# Altium integrated library Altium Database Library V2.IntLib: 376 symbols (part 6 of 17)

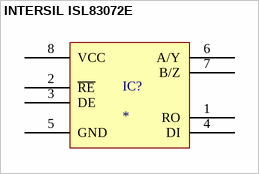
[diagram p115: symbol INTERSIL ISL83072E]

## INTERSIL ISL83072E
designator IC?
pins: 1 RO, 2 ~{RE}, 3 DE, 4 DI, 5 GND, 6 A/Y, 7 B/Z, 8 VCC


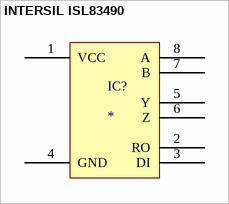
[diagram p116: symbol INTERSIL ISL83490]

## INTERSIL ISL83490
designator IC?
pins: 1 VCC, 2 RO, 3 DI, 4 GND, 5 Y, 6 Z, 7 B, 8 A


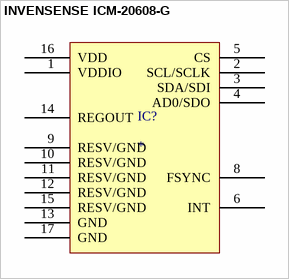
[diagram p117: symbol INVENSENSE ICM-20608-G]

## INVENSENSE ICM-20608-G
designator IC?
pins: 1 VDDIO, 2 SCL/SCLK, 3 SDA/SDI, 4 AD0/SDO, 5 CS, 6 INT, 8 FSYNC, 9 RESV/GND, 10 RESV/GND, 11 RESV/GND, 12 RESV/GND, 13 GND, 14 REGOUT, 15 RESV/GND, 16 VDD, 17 GND


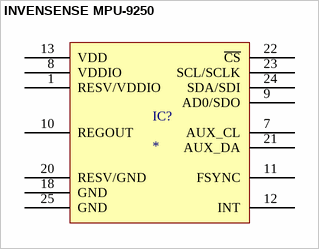
[diagram p118: symbol INVENSENSE MPU-9250]

## INVENSENSE MPU-9250
designator IC?
pins: 1 RESV/VDDIO, 7 AUX_CL, 8 VDDIO, 9 AD0/SDO, 10 REGOUT, 11 FSYNC, 12 INT, 13 VDD, 18 GND, 20 RESV/GND, 21 AUX_DA, 22 ~{CS}, 23 SCL/SCLK, 24 SDA/SDI, 25 GND


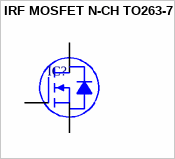
[diagram p119: symbol IRF MOSFET N-CH TO263-7]

## IRF MOSFET N-CH TO263-7
designator IC?
pins: 1 G, 2 S, 3 S, 5 S, 6 S, 7 S, 8 D


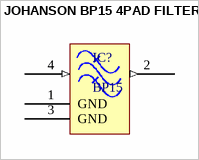
[diagram p120: symbol JOHANSON BP15 4PAD FILTER]

## JOHANSON BP15 4PAD FILTER
designator IC?, comment BP15
pins: 1 GND "Desc1", 2 OUT (out) "Desc1", 3 GND "Desc1", 4 IN (in) "Desc1"


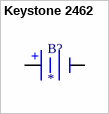
[diagram p121: symbol Keystone 2462]

## Keystone 2462
designator B?
pins: 1 +, 2 -


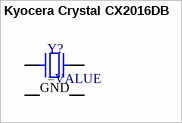
[diagram p122: symbol Kyocera Crystal CX2016DB]

## Kyocera Crystal CX2016DB
designator Y?
SMT Crystal
pins: 1, 2 GND, 3, 4 GND


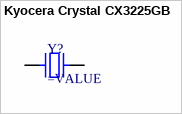
[diagram p123: symbol Kyocera Crystal CX3225GB]

## Kyocera Crystal CX3225GB
designator Y?
SMT Crystal
pins: 1, 3


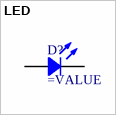
[diagram p124: symbol LED]

## LED
designator D?
Chip LED
pins: 1, 2


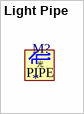
[diagram p125: symbol Light Pipe]

## Light Pipe
designator M?
text: 光; PIPE


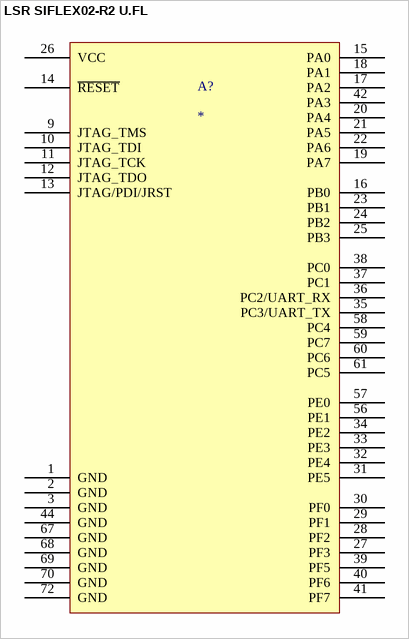
[diagram p126: symbol LSR SIFLEX02-R2 U.FL]

## LSR SIFLEX02-R2 U.FL
designator A?
pins: 1 GND, 2 GND, 3 GND, 9 JTAG_TMS, 10 JTAG_TDI, 11 JTAG_TCK, 12 JTAG_TDO, 13 JTAG/PDI/JRST, 14 ~{RESET}, 15 PA0, 16 PB0, 17 PA2, 18 PA1, 19 PA7, 20 PA4, 21 PA5, 22 PA6, 23 PB1, 24 PB2, 25 PB3, 26 VCC, 27 PF3, 28 PF2, 29 PF1, 30 PF0, 31 PE5, 32 PE4, 33 PE3, 34 PE2, 35 PC3/UART_TX, 36 PC2/UART_RX, 37 PC1, 38 PC0, 39 PF5, 40 PF6, 41 PF7, 42 PA3, 44 GND, 56 PE1, 57 PE0, 58 PC4, 59 PC7, 60 PC6, 61 PC5, 67 GND, 68 GND, 69 GND, 70 GND, 72 GND


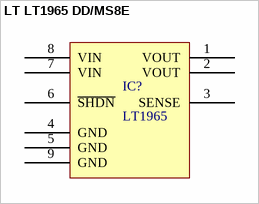
[diagram p127: symbol LT LT1965 DD/MS8E]

## LT LT1965 DD/MS8E
designator IC?, comment LT1965
1.1A, Low Noise, Low Dropout Linear Regulator
pins: 1 VOUT, 2 VOUT, 3 SENSE, 4 GND, 5 GND, 6 ~{SHDN}, 7 VIN, 8 VIN, 9 GND


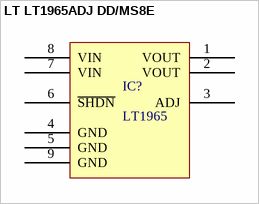
[diagram p128: symbol LT LT1965ADJ DD/MS8E]

## LT LT1965ADJ DD/MS8E
designator IC?, comment LT1965
1.1A, Low Noise, Low Dropout Linear Regulator
pins: 1 VOUT, 2 VOUT, 3 ADJ, 4 GND, 5 GND, 6 ~{SHDN}, 7 VIN, 8 VIN, 9 GND


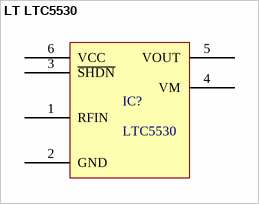
[diagram p129: symbol LT LTC5530]

## LT LTC5530
designator IC?, comment LTC5530
Precision 300MHz to 7GHz  RF Detector with Shutdown  and Gain Adjustment
pins: 1 RFIN, 2 GND, 3 ~{SHDN}, 4 VM, 5 VOUT, 6 VCC


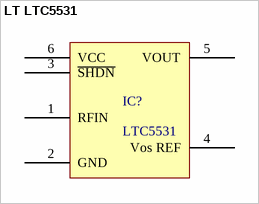
[diagram p130: symbol LT LTC5531]

## LT LTC5531
designator IC?, comment LTC5531
Precision 300MHz to 7GHz  RF Detector with Shutdown  and Offset Adjustment
pins: 1 RFIN, 2 GND, 3 ~{SHDN}, 4 Vos REF, 5 VOUT, 6 VCC


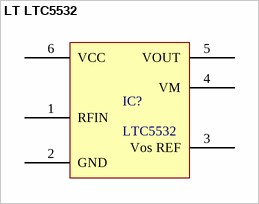
[diagram p131: symbol LT LTC5532]

## LT LTC5532
designator IC?, comment LTC5532
Precision 300MHz to 7GHz  RF Detector with Shutdown  and Gain Adjustment
pins: 1 RFIN, 2 GND, 3 Vos REF, 4 VM, 5 VOUT, 6 VCC


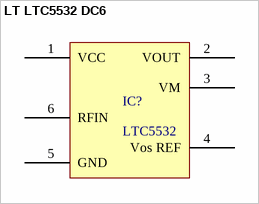
[diagram p132: symbol LT LTC5532 DC6]

## LT LTC5532 DC6
designator IC?, comment LTC5532
Precision 300MHz to 7GHz  RF Detector with Shutdown  and Gain Adjustment
pins: 1 VCC, 2 VOUT, 3 VM, 4 Vos REF, 5 GND, 6 RFIN


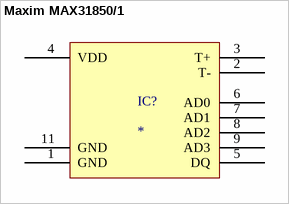
[diagram p133: symbol Maxim MAX31850/1]

## Maxim MAX31850/1
designator IC?
pins: 1 GND, 2 T-, 3 T+, 4 VDD, 5 DQ, 6 AD0, 7 AD1, 8 AD2, 9 AD3, 11 GND


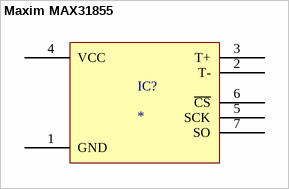
[diagram p134: symbol Maxim MAX31855]

## Maxim MAX31855
designator IC?
pins: 1 GND, 2 T-, 3 T+, 4 VCC, 5 SCK, 6 ~{CS}, 7 SO


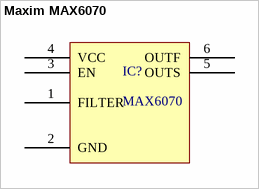
[diagram p135: symbol Maxim MAX6070]

## Maxim MAX6070
designator IC?, comment MAX6070
Low Noise High Precision Series Voltage References
pins: 1 FILTER, 2 GND, 3 EN, 4 VCC, 5 OUTS, 6 OUTF


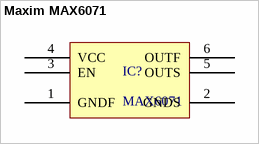
[diagram p136: symbol Maxim MAX6071]

## Maxim MAX6071
designator IC?, comment MAX6071
Low Noise High Precision Series Voltage References
pins: 1 GNDF, 2 GNDS, 3 EN, 4 VCC, 5 OUTS, 6 OUTF


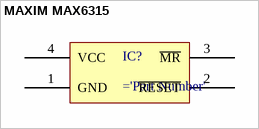
[diagram p137: symbol MAXIM MAX6315]

## MAXIM MAX6315
designator IC?
pins: 1 GND, 2 ~{RESET}, 3 ~{MR}, 4 VCC
